# EAGLE library part 829-22-006-20-001101 (library CONNECTORs)
6 Position Spring Piston Connector Through Hole, Right Angle
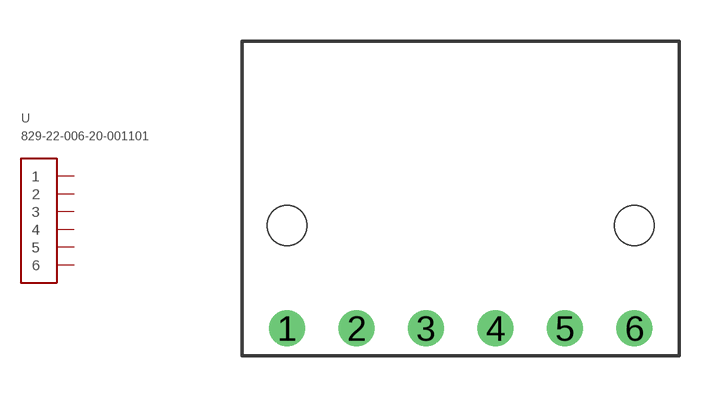
[diagram p56: symbol with the pads of 829-22-006-20-001101; footprint 829-22-006-20-001101]

Designator prefix -

## 829-22-006-20-001101 (DIGIKEY: ED90507-ND; HEIGHT: 2.6; PRICE_PER: 5.29; VALUE: 6PIN RA POGO)  [829-22-006-20-001101]
1  1
2  2
3  3
4  4
5  5
6  6

## Footprint 829-22-006-20-001101 (pad centres in mm)
drill 0.81: 1 -6.35,0; 2 -3.81,0; 3 -1.27,0; 4 1.27,0; 5 3.81,0; 6 6.35,0
hole 1.45 at -6.35,3.76
hole 1.45 at 6.35,3.76